# EAGLE library part KOLOSY_TPS62125 (library boat6)
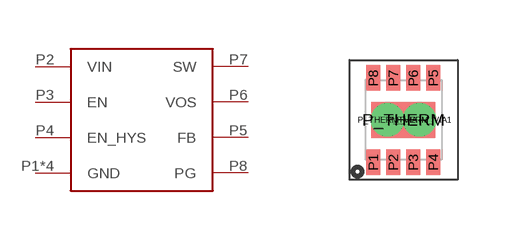
[diagram p7: symbol with the pads of KOLOSY_S-PWSON-N8; footprint KOLOSY_S-PWSON-N8]

Designator prefix -

## KOLOSY_TPS62125  [KOLOSY_S-PWSON-N8]
P1  GND
P2  VIN
P3  EN
P4  EN_HYS
P5  FB
P6  VOS
P7  SW
P8  PG
P_THERM  GND
P_THERM_VIA  GND
P_THERM_VIA1  GND

## Footprint KOLOSY_S-PWSON-N8 (pad centres in mm)
smd 0.35 x 0.64: P1 -0.75,-1.06; P2 -0.25,-1.06; P3 0.25,-1.06; P4 0.75,-1.06; P5 0.75,1.05; P6 0.25,1.05; P7 -0.25,1.05; P8 -0.75,1.05
smd 1.6 x 0.9: P_THERM 0,0
drill 0.33: P_THERM_VIA -0.4,0; P_THERM_VIA1 0.4,0